# Altium integrated library STM32WL5MOCH6TR.IntLib: 1 symbol
Pins are listed as number, name and electrical type; pins without a type are passive.

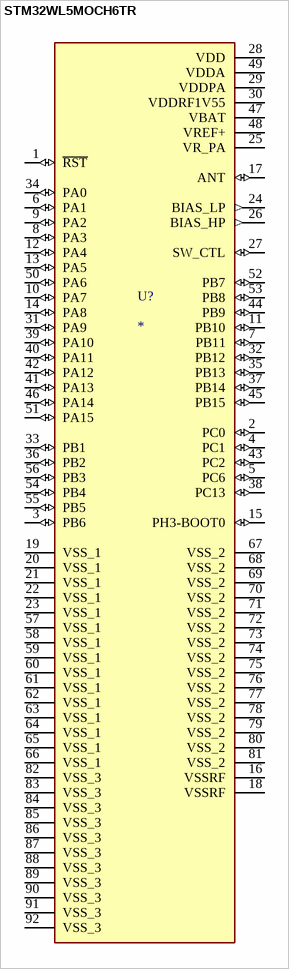
[diagram p0: symbol STM32WL5MOCH6TR]

## STM32WL5MOCH6TR
designator U?
IC RF TxRx + MCU General ISM < 1GHz LoRaWAN 1.0, Sigfox, Wireless M-Bus 864MHz ~ 928MHz; MF: STMicroelectronics; MP: STM32WL5MOCH6TR; SnapEDA_Link: https://www.snapeda.com/parts/STM32WL5MOCH6TR/STMicroelectronics/view-part/?ref=snap; Package: None; Value: *; Check_prices: https://www.snapeda.com/parts/STM32WL5MOCH6TR/STMicroelectronics/view-part/?ref=eda
footprint XCVR_STM32WL5MOCH6TR
pins: 1 ~{RST} (io), 2 PC0 (io), 3 PB6 (io), 4 PC1 (io), 5 PC6 (io), 6 PA1 (io), 7 PB11 (io), 8 PA3 (io), 9 PA2 (io), 10 PA7 (io), 11 PB10 (io), 12 PA4 (io), 13 PA5 (io), 14 PA8 (io), 15 PH3-BOOT0 (io), 16 VSSRF (power), 17 ANT (io), 18 VSSRF (power), 19 VSS_1 (power), 20 VSS_1 (power), 21 VSS_1 (power), 22 VSS_1 (power), 23 VSS_1 (power), 24 BIAS_LP (out), 25 VR_PA (power), 26 BIAS_HP (out), 27 SW_CTL (io), 28 VDD (power), 29 VDDPA (power), 30 VDDRF1V55 (power), 31 PA9 (io), 32 PB12 (io), 33 PB1 (io), 34 PA0 (io), 35 PB13 (io), 36 PB2 (io), 37 PB14 (io), 38 PC13 (io), 39 PA10 (io), 40 PA11 (io), 41 PA13 (io), 42 PA12 (io), 43 PC2 (io), 44 PB9 (io), 45 PB15 (io), 46 PA14 (io), 47 VBAT (power), 48 VREF+ (power), 49 VDDA (power), 50 PA6 (io), 51 PA15 (io), 52 PB7 (io), 53 PB8 (io), 54 PB4 (io), 55 PB5 (io), 56 PB3 (io), 57 VSS_1 (power), 58 VSS_1 (power), 59 VSS_1 (power), 60 VSS_1 (power), 61 VSS_1 (power), 62 VSS_1 (power), 63 VSS_1 (power), 64 VSS_1 (power), 65 VSS_1 (power), 66 VSS_1 (power), 67 VSS_2 (power), 68 VSS_2 (power), 69 VSS_2 (power), 70 VSS_2 (power), 71 VSS_2 (power), 72 VSS_2 (power), 73 VSS_2 (power), 74 VSS_2 (power), 75 VSS_2 (power), 76 VSS_2 (power), 77 VSS_2 (power), 78 VSS_2 (power), 79 VSS_2 (power), 80 VSS_2 (power), 81 VSS_2 (power), 82 VSS_3 (power), 83 VSS_3 (power), 84 VSS_3 (power), 85 VSS_3 (power), 86 VSS_3 (power), 87 VSS_3 (power), 88 VSS_3 (power), 89 VSS_3 (power), 90 VSS_3 (power), 91 VSS_3 (power), 92 VSS_3 (power)